# Altium schematic symbol library FH34SRJ-18S-0.5SH_50_.SchLib: 1 symbol
Pins are listed as number, name and electrical type; pins without a type are passive.

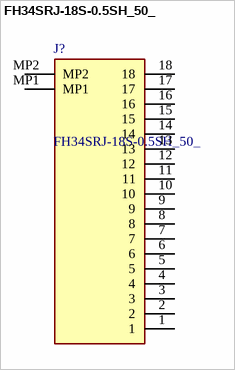
[diagram p0: symbol FH34SRJ-18S-0.5SH_50_]

## FH34SRJ-18S-0.5SH_50_
designator J?
FFC & FPC Connectors 18P SMT HORIZ ZIF AU 1MM HGHT .5MM PITCH; Manufacturer_Name: Hirose; Manufacturer_Part_Number: FH34SRJ-18S-0.5SH(50); Geometry.Height: 1.1mm; Mouser Part Number: 798-FH34SRJ18S05SH50; Mouser Price/Stock: https://www.mouser.co.uk/ProductDetail/Hirose-Connector/FH34SRJ-18S-0.5SH50?qs=vnk2wBG9e14baKy2cefMsg%3D%3D; Datasheet Link: https://componentsearchengine.com/Datasheets/2/FH34SRJ-18S-0.5SH(50).pdf
footprint FH34SRJ18S05SH50
pins: 1, 2, 3, 4, 5, 6, 7, 8, 9, 10, 11, 12, 13, 14, 15, 16, 17, 18, MP1, MP2